# Altium footprint library switch.PcbLib: 1 footprints
Each footprint in its own frame and in the unit in brackets; x right, y up, seen from the top. Pads: shape width x height; smd on the part's side, far side on the other; paste and mask are expansions set on the pad; w line width, h text height; cw(c..) or ccw(c..) is an arc to the next point about the centre after c.
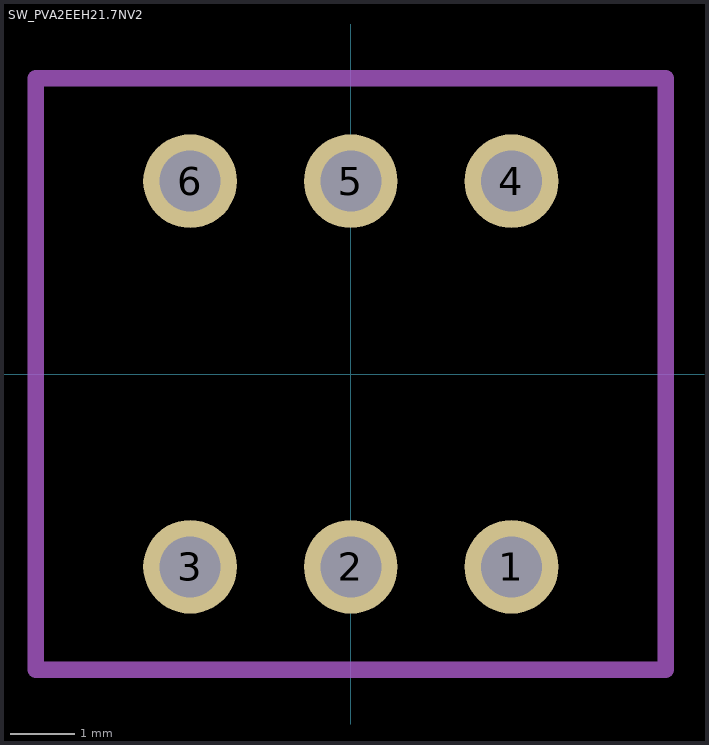
[diagram p0: the footprint, top view; thin cyan lines are the x and y axes]

## SW_PVA2EEH21.7NV2 [mm]
pads (6):
  round 1.458 hole 0.95: 1(2.5,-3) 2(0,-3) 3(-2.5,-3) 4(2.5,3) 5(0,3) 6(-2.5,3)
Mechanical 13:
  lines w0: 4.9,-4.6 5,-4.6
  lines w0.254: -4.9,-4.6 -4.9,4.6 4.9,4.6 4.9,-4.6 -4.9,-4.6